# Altium integrated library AltiumLibraries.IntLib: 138 symbols (part 2 of 2)
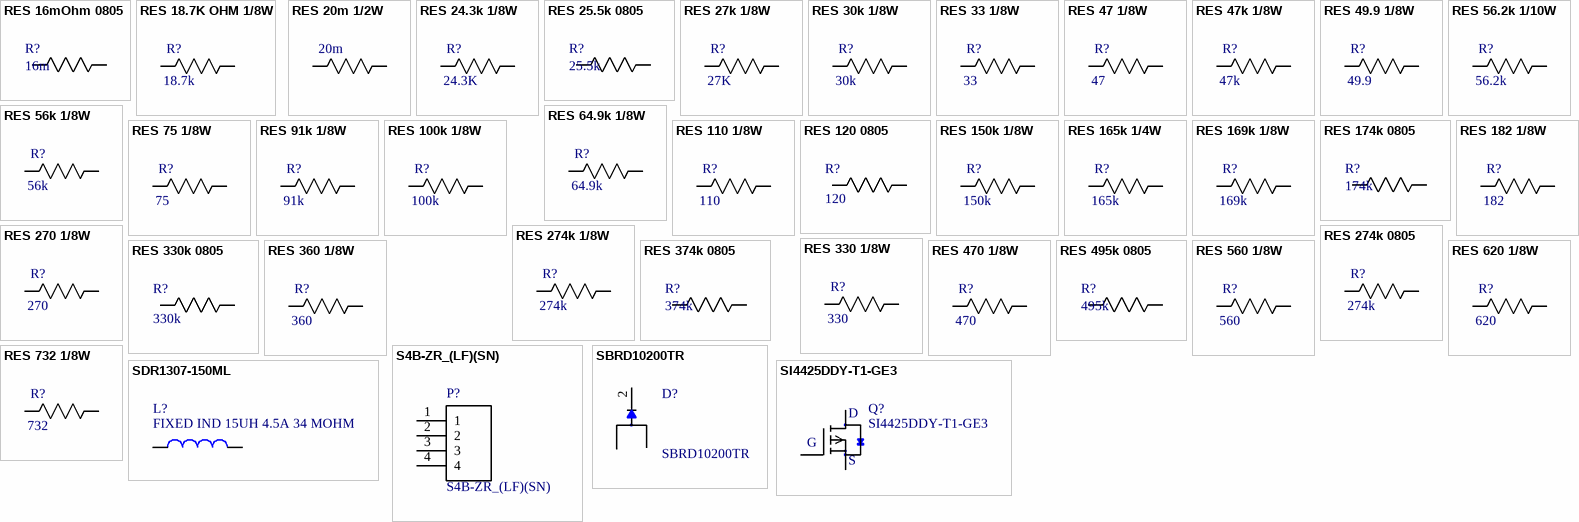
[diagram p4: symbols RES 16mOhm 0805 to SI4425DDY-T1-GE3]

## RES 56k 1/8W
designator R?, comment 56k
RES SMD 56K OHM 5% 1/8W 0805; Power (Watts): 0.125W; Package: 0805; Value: 56k; Tolerance: 5%
footprint 0805
pins: 1 R1, 2 R2

## RES 64.9k 1/8W
designator R?, comment 64.9k
RES SMD 64.9K OHM 1% 1/8W 0805; Power (Watts): 0.125W; Package: 0805; Value: 64.9k; Tolerance: 1%; ComponentLink1Description: digikey; ComponentLink1URL: https://www.digikey.ca/en/products/detail/yageo/RC0805FR-0764K9L/728090
footprint 0805
pins: 1 R1, 2 R2

## RES 75 1/8W
designator R?, comment 75
RES SMD 75 OHM 1% 1/8W 0805; Power (Watts): 0.125W; Package: 0805; Value: 75; Tolerance: 1%
footprint 0805
pins: 1 R1, 2 R2

## RES 91k 1/8W
designator R?, comment 91k
RES SMD 91K OHM 1% 1/8W 0805; Power (Watts): 0.125W; Package: 0805; Value: 91k; Tolerance: 1%
footprint 0805
pins: 1 R1, 2 R2

## RES 100k 1/8W
designator R?, comment 100k
RES SMD 100K OHM 1% 1/8W 0805; Power (Watts): 0.125W; Package: 0805; Value: 100k; Tolerance: 1%
footprint 0805
pins: 1 R1, 2 R2

## RES 110 1/8W
designator R?, comment 110
RES SMD 110 OHM 1% 1/8W 0805; Power (Watts): 0.125W; Package: 0805; Value: 110; Tolerance: 1%
footprint 0805
pins: 1 R1, 2 R2

## RES 120 0805
designator R?, comment 120
RES SMD 120 OHM 0805
footprint 0805
pins: 1 R1, 2 R2

## RES 150k 1/8W
designator R?, comment 150k
RES SMD 150K OHM 1% 1/8W 0805; Power (Watts): 0.125W; Package: 0805; Value: 150k; Tolerance: 1%
footprint 0805
pins: 1 R1, 2 R2

## RES 165k 1/4W
designator R?, comment 165k
RES SMD 165K OHM 1% 1/4W 0805; Power (Watts): 0.25W; Package: 0805; Value: 165k; Tolerance: 1%
footprint 0805
pins: 1 R1, 2 R2

## RES 169k 1/8W
designator R?, comment 169k
RES SMD 169K OHM 1% 1/8W 0805; Power (Watts): 0.125W; Package: 0805; Value: 169k; Tolerance: 1%; ComponentLink1Description: digikey; ComponentLink1URL: https://www.digikey.ca/en/products/detail/yageo/RC0805FR-07169KL/727634
footprint 0805
pins: 1 R1, 2 R2

## RES 174k 0805
designator R?, comment 174k
RES SMD 174K OHM 1% 1/8W 0805; Manufacturer: Yageo; Manufacturer Part Number: RC0805FR-07174KL; Max Power Dissipation: 125mW; Resistance: 174kR; Temperature Coefficient: 100ppm/°C; Voltage Rating: 150V; Supplier 1: Digi-Key; RoHS: Yes; Category: Chip SMD Resistors; Stock 1: 27863; Pricing 1: 1=0.10000, 10=0.04000, 100=0.01630, 1000=0.00731, 2500=0.00635 (USD); Case/Package: 0805; Case Code (Metric): 2012; Case Code (Imperial): 0805; Contact Plating: Tin,Matte; Min Operating Temperature: -55°C; Max Operating Temperature: 155°C; Package Quantity: 1; Power Rating: 125mW; Tolerance: 1%; Packaging: Tape and Reel; Features: Moisture Resistant; Composition: Thick Film; Number of Terminations: 2; Termination: SMD/SMT; Military Standard: Not; Voltage Rating (DC): 150V; Length: 2mm; Height: 0.024inch; Width: 0.049inch; Depth: 1.25mm; Radiation Hardening: No; Lead Free: Lead Free; ComponentLink1URL: https://datasheet.ciiva.com/2509/pyu-r-int-thick-7-2509472.pdf?src-supplier=Digi-Key; ComponentLink1Description: https://datasheet.ciiva.com/2509/pyu-r-int-thick-7-2509472.pdf?src-supplier=Digi-Key; ComponentLink2URL: https://datasheet.ciiva.com/2509/pyu-r-int-thick-7-2509471.pdf?src-supplier=Digi-Key; ComponentLink2Description: https://datasheet.ciiva.com/2509/pyu-r-int-thick-7-2509471.pdf?src-supplier=Digi-Key; ComponentLink3URL: https://datasheet.ciiva.com/2509/pyu-r-int-thick-7-2509473.pdf?src-supplier=Digi-Key; ComponentLink3Description: https://datasheet.ciiva.com/2509/pyu-r-int-thick-7-2509473.pdf?src-supplier=Digi-Key; Supplier Part Number 1: 311-174KCRCT-ND
footprint 0805
pins: 1 R1, 2 R2

## RES 182 1/8W
designator R?, comment 182
RES SMD 182 OHM 1% 1/8W 0805; Power (Watts): 0.125W; Package: 0805; Value: 182; Tolerance: 1%
footprint 0805
pins: 1 R1, 2 R2

## RES 270 1/8W
designator R?, comment 270
RES SMD 270 OHM 5% 1/8W 0805; Power (Watts): 0.125W; Package: 0805; Value: 270; Tolerance: 5%
footprint 0805
pins: 1 R1, 2 R2

## RES 274k 1/8W
designator R?, comment 274k
RES SMD 274K OHM 1% 1/8W 0805; Power (Watts): 0.125W; Package: 0805; Value: 274k; Tolerance: 1%
footprint 0805
pins: 1 R1, 2 R2

## RES 274k 0805
designator R?, comment 274k
RES SMD 274K OHM 1% 1/8W 0805; MP: RC0805FR-07274KL; MF: Yageo; Rating: 0.125W; Digikey: 311-274KCRCT-ND; Price: 0.061 CAD; Package: 0805; Value: 274k; Digikey Link: https://www.digikey.ca/products/en?keywords=311-274KCRCT-ND; Tolerance: 1%
footprint 0805
pins: 1 R1, 2 R2

## RES 330 1/8W
designator R?, comment 330
RES SMD 330 OHM 1% 1/8W 0805; Rating: 0.125W; Package: 0805; Value: 330; Tolerance: 1%
footprint 0805
pins: 1 R1, 2 R2

## RES 330k 0805
designator R?, comment 330k
RES SMD 274K OHM 1% 1/8W 0805
footprint 0805
pins: 1 R1, 2 R2

## RES 360 1/8W
designator R?, comment 360
RES SMD 360 OHM 1% 1/8W 0805; Power (Watts): 0.125W; Package: 0805; Value: 360; Tolerance: 1%
footprint 0805
pins: 1 R1, 2 R2

## RES 374k 0805
designator R?, comment 374k
0805 Resistor, 6A, 0.125W, 25ppm, 0.1%, 374K; Manufacturer: Panasonic; Manufacturer Part Number: ERA-6AEB3743V; Resistance: 374kR; Temperature Coefficient: 25ppm/°C; Max Power Dissipation: 125mW; Voltage Rating: 100V; Supplier 1: Digi-Key; RoHS: Yes; Category: Chip SMD Resistors; Stock 1: 10062; Pricing 1: 1=0.34000, 10=0.28800, 100=0.11260, 1000=0.04712, 2500=0.04320 (USD); Mount: Surface Mount; Case/Package: 0805; Number of Pins: 2; Contact Plating: Tin; Case Code (Metric): 2012; Case Code (Imperial): 0805; Min Operating Temperature: -55°C; Max Operating Temperature: 155°C; Tolerance: 0.1%; Packaging: Tape and Reel; Package Quantity: 5000; Features: Automotive AEC-Q200; Number of Terminations: 2; Composition: Thin Film,Metal Film; Power Rating: 125mW; Termination: Solder; Voltage Rating (DC): 100V; Length: 2mm; Height: 0.5mm; Width: 1.25mm; Depth: 1.25mm; Radiation Hardening: No; Lead Free: Lead Free; ComponentLink1URL: https://datasheet.ciiva.com/11810/0900766b80eb1d8c-11810612.pdf?src-supplier=RSComponents; ComponentLink1Description: https://datasheet.ciiva.com/11810/0900766b80eb1d8c-11810612.pdf?src-supplier=RSComponents; ComponentLink2URL: https://datasheet.ciiva.com/41450/001181392-da-01-en-widerstand-era-0805-374k-0-1-5000st-41450550.pdf?src-supplier=Conrad; ComponentLink2Description: https://datasheet.ciiva.com/41450/001181392-da-01-en-widerstand-era-0805-374k-0-1-5000st-41450550.pdf?src-supplier=Conrad; ComponentLink3URL: https://datasheet.ciiva.com/17206/aoa0000ce26-17206008.pdf?src-supplier=Avnet+Europe; ComponentLink3Description: https://datasheet.ciiva.com/17206/aoa0000ce26-17206008.pdf?src-supplier=Avnet+Europe; ComponentLink4URL: https://datasheet.ciiva.com/6001/485442-6001717.pdf?src-supplier=Farnell; ComponentLink4Description: https://datasheet.ciiva.com/6001/485442-6001717.pdf?src-supplier=Farnell; ComponentLink5URL: https://datasheet.ciiva.com/9182/aoa0000ce26-9182549.pdf?src-supplier=Avnet; ComponentLink5Description: https://datasheet.ciiva.com/9182/aoa0000ce26-9182549.pdf?src-supplier=Avnet; ComponentLink6URL: https://datasheet.ciiva.com/6001/485442-6001718.pdf?src-supplier=Farnell; ComponentLink6Description: https://datasheet.ciiva.com/6001/485442-6001718.pdf?src-supplier=Farnell; ComponentLink7URL: https://datasheet.ciiva.com/7753/485442-7753884.pdf?src-supplier=Element14; ComponentLink7Description: https://datasheet.ciiva.com/7753/485442-7753884.pdf?src-supplier=Element14; ComponentLink8URL: https://datasheet.ciiva.com/7753/485442-7753885.pdf?src-supplier=Element14; ComponentLink8Description: https://datasheet.ciiva.com/7753/485442-7753885.pdf?src-supplier=Element14; Supplier Part Number 1: P374KDACT-ND
footprint 0805
pins: 1 R1, 2 R2

## RES 470 1/8W
designator R?, comment 470
RES SMD 470 OHM 1% 1/8W 0805; Power (Watts): 0.125W; Package: 0805; Value: 470; Tolerance: 1%
footprint 0805
pins: 1 R1, 2 R2

## RES 495k 0805
designator R?, comment 495k
RES SMD 499K OHM 1% 1/8W 0805; Manufacturer: Yageo; Manufacturer Part Number: RC0805FR-07499KL; Temperature Coefficient: 100ppm/°C; Voltage Rating (DC): 150V; Resistance: 499kR; Power Rating: 125mW; Supplier 1: Digi-Key; RoHS: Yes; Category: Chip SMD Resistors; Stock 1: 2275; Pricing 1: 1=0.10000, 10=0.04000, 100=0.01630, 1000=0.00731, 2500=0.00635 (USD); Case/Package: 0805; Case Code (Metric): 2012; Case Code (Imperial): 0805; Contact Plating: Tin,Lead,Matte; Min Operating Temperature: -55°C; Max Operating Temperature: 155°C; Termination: SMD/SMT; Composition: Thick Film; Military Standard: Not; Tolerance: 1%; Voltage Rating: 150V; Packaging: Tape and Reel; Length: 2mm; Depth: 1.25mm; Radiation Hardening: No; Lead Free: Lead Free; ComponentLink1URL: https://datasheet.ciiva.com/15189/getdatasheetpartid-326570-15189975.pdf?src-supplier=Verical; ComponentLink1Description: https://datasheet.ciiva.com/15189/getdatasheetpartid-326570-15189975.pdf?src-supplier=Verical; Supplier Part Number 1: 311-499KCRCT-ND
footprint 0805
pins: 1 R1, 2 R2

## RES 560 1/8W
designator R?, comment 560
RES SMD 560 OHM 1% 1/8W 0805; Power (Watts): 0.125W; Package: 0805; Value: 560; Tolerance: 1%
footprint 0805
pins: 1 R1, 2 R2

## RES 620 1/8W
designator R?, comment 620
RES SMD 620 OHM 5% 1/8W 0805; Power (Watts): 0.125W; Package: 0805; Value: 620; Tolerance: 5%
footprint 0805
pins: 1 R1, 2 R2

## RES 732 1/8W
designator R?, comment 732
RES SMD 732 OHM 1% 1/8W 0805; Power (Watts): 0.125W; Package: 0805; Value: 732; Tolerance: 1%
footprint 0805
pins: 1 R1, 2 R2

## S4B-ZR_(LF)(SN)
designator P?
Conn Shrouded Header HDR 4 POS 1.5mm Solder RA Thru-Hole Box; MP: S4B-ZR _LF__SN_; MF: JST Sales; Package: None; Price: None; Digikey PN: 455-1671-ND
footprint *JST_S4B-ZR(LF)(SN)
pins: 1, 2, 3, 4

## SBRD10200TR
designator D?
Diode Schottky 200V 10A Surface Mount DPAK; MF: SMC Diode; MP: SBRD10200TR; SnapEDA_Link: https://www.snapeda.com/parts/SBRD10200TR/SMC%20Diode%20Solutions/view-part/702246/?ref=snap; Package: TO-252-3 SMC; ComponentLink1Description: digikey; ComponentLink1URL: https://www.digikey.ca/product-detail/en/smc-diode-solutions/SBRD10200TR/1655-1939-1-ND/8625508; Digikey: 1655-1939-1-ND; Digikey Link: https://www.digikey.ca/product-detail/en/smc-diode-solutions/SBRD10200TR/1655-1939-1-ND/8625508
footprint DPAK
pins: 1, 2, 3

## SDR1307-150ML
designator L?, comment FIXED IND 15UH 4.5A 34 MOHM
15µH Unshielded Wirewound Inductor 4.5A 34mOhm Max Nonstandard; MP: SDR1307-150ML; MF: Bourns Inc.; Inductance: 15.0uH; Current - Saturation: 7.5A; Height - Seated (Max): 0.287"" (7.30mm); ComponentLink1Description: digikey; ComponentLink1URL: https://www.digikey.ca/en/products/detail/bourns-inc/SRU1048-8R2Y/2352912; Digikey: SDR1307-150MLCT-ND; Digikey Link: https://www.digikey.ca/en/products/detail/bourns-inc/SDR1307-150ML/2561929; DC Resistance (DCR): 34mOhm; Operating Temperature: -40°C ~ 125°C; Size / Dimension: 0.512"" L x 0.512"" W (13.00mm x 13.00mm)
pins: 1, 2

## SI4425DDY-T1-GE3
designator Q?
P-Channel 30V 19.7A (Tc) 2.5W (Ta), 5.7W (Tc) Surface Mount 8-SO; MF: ON Semiconductor; Package: 8-SOIC; MP: SI4425DDY-T1-GE3; ComponentLink1Description: digikey; ComponentLink1URL: https://www.digikey.ca/en/products/detail/vishay-siliconix/SI4425DDY-T1-GE3/2622187; Digikey: SI4425DDY-T1-GE3CT-ND; Digikey Link: https://www.digikey.ca/product-detail/en/vishay-siliconix/SI4425DDY-T1-GE3/SI4425DDY-T1-GE3CT-ND/3305378
footprint 8-SOIC MOSFET
pins: D, G, S

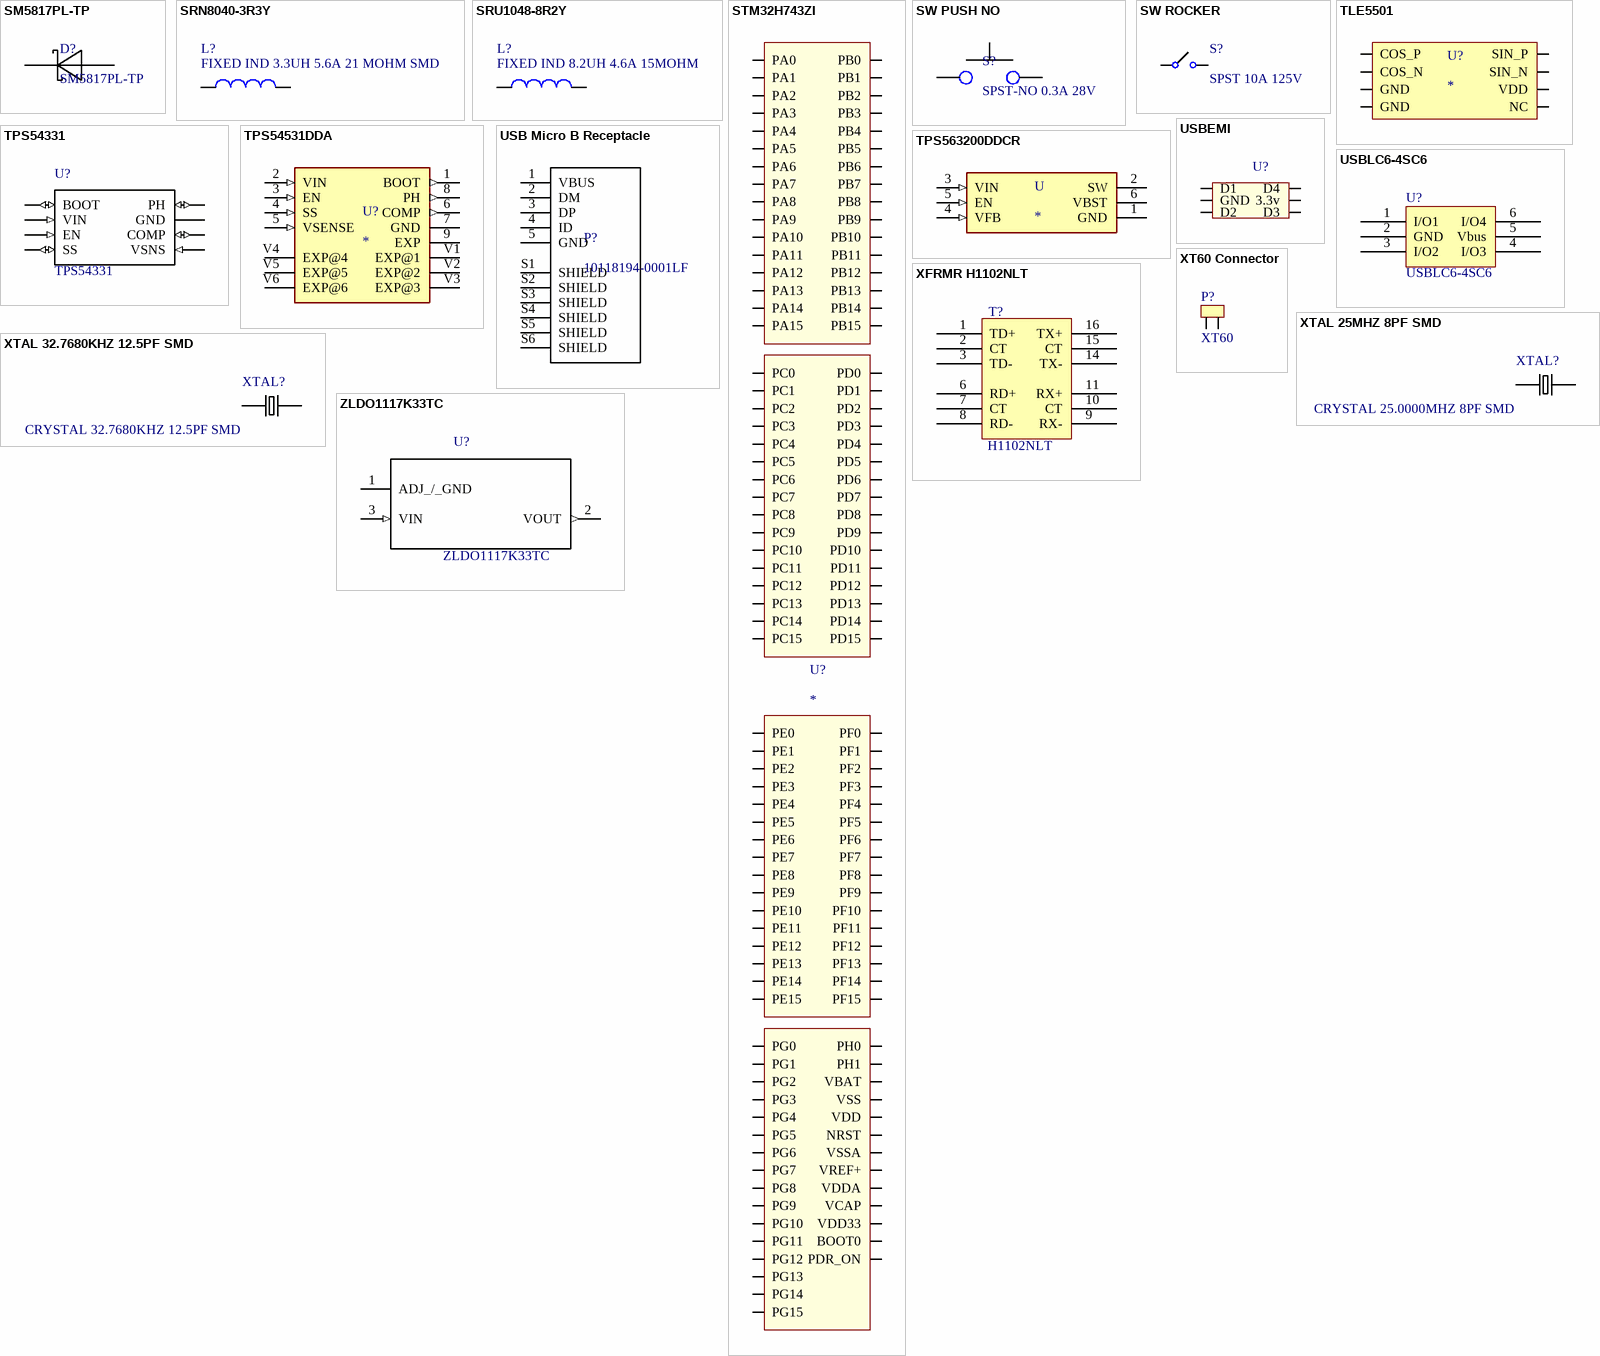
[diagram p3: symbols SM5817PL-TP to ZLDO1117K33TC]

## SM5817PL-TP
designator D?
Diode Schottky 20V 1A Surface Mount SOD-123FL; MF: Micro Commercial Co; ComponentLink1Description: digikey; ComponentLink1URL: https://www.digikey.ca/product-detail/en/on-semiconductor/MBR0540T1G/MBR0540T1GOSCT-ND/917967; Digikey: SM5817PL-TPMSCT-ND; Digikey Link: https://www.digikey.ca/product-detail/en/micro-commercial-co/SM5817PL-TP/SM5817PL-TPMSCT-ND/1793410; MP: SM5817PL-TP; Voltage Rating: 20V; Package: SOD-123; Current Rating: 1A
footprint SOD-123
pins: A, C K

## SRN8040-3R3Y
designator L?, comment FIXED IND 3.3UH 5.6A 21 MOHM SMD
3.3µH Semi-Shielded Wirewound Inductor 5.6A 21mOhm Max Nonstandard; MP: SRN8040-3R3Y; MF: Bourns Inc.; Price: None; Package: Nonstandard; Inductance: 3.3uH; ComponentLink1Description: digikey; ComponentLink1URL: https://www.digikey.ca/en/products/detail/bourns-inc/SRU1048-8R2Y/2352912; Digikey: SRN8040-3R3YCT-ND; Digikey Link: https://www.digikey.ca/en/products/detail/bourns-inc/SRN8040-3R3Y/2756131
pins: 1, 2

## SRU1048-8R2Y
designator L?, comment FIXED IND 8.2UH 4.6A 15MOHM
8.2µH Shielded Wirewound Inductor 4.6A 15mOhm Nonstandard; MP: SRU1048-8R2Y; MF: Bourns Inc.; Price: None; Package: Nonstandard; Value: 8.2uH; ComponentLink1Description: digikey; ComponentLink1URL: https://www.digikey.ca/en/products/detail/bourns-inc/SRU1048-8R2Y/2352912; Digikey: SRU1048-8R2YCT-ND; Digikey Link: https://www.digikey.ca/en/products/detail/bourns-inc/SRU1048-8R2Y/2352912
footprint SRU1048-8R2Y
pins: 1, 2

## STM32H743ZI
designator U?
MF: STMicroelectronics; MP: STM32H743ZIT6; Digikey: 497-17721-ND; Digikey Link: https://www.digikey.ca/product-detail/en/stmicroelectronics/STM32H743ZIT6/497-17721-ND/7809238; Package: 144-LQFP (20x20)
footprint STM32H7 (STM32H743ZI 144 pin)
pins: BOOT0, NRST, PA0, PA1, PA2, PA3, PA4, PA5, PA6, PA7, PA8, PA9, PA10, PA11, PA12, PA13, PA14, PA15, PB0, PB1, PB2, PB3, PB4, PB5, PB6, PB7, PB8, PB9, PB10, PB11, PB12, PB13, PB14, PB15, PC0, PC1, PC2, PC3, PC4, PC5, PC6, PC7, PC8, PC9, PC10, PC11, PC12, PC13, PC14, PC15, PD0, PD1, PD2, PD3, PD4, PD5, PD6, PD7, PD8, PD9, PD10, PD11, PD12, PD13, PD14, PD15, PDR_ON, PE0, PE1, PE2, PE3, PE4, PE5, PE6, PE7, PE8, PE9, PE10, PE11, PE12, PE13, PE14, PE15, PF0, PF1, PF2, PF3, PF4, PF5, PF6, PF7, PF8, PF9, PF10, PF11, PF12, PF13, PF14, PF15, PG0, PG1, PG2, PG3, PG4, PG5, PG6, PG7, PG8, PG9, PG10, PG11, PG12, PG13, PG14, PG15, PH0, PH1, VBAT, VCAP, VDD, VDD33USB VDD33, VDDA, VREF+, VSS, VSSA

## SW PUSH NO
designator S?, comment SPST-NO 0.3A 28V
Pushbutton Switch SPST-NO Standard Through Hole; MF: E-Switch; MP: PB300STQ; Rating: 28V 0.3A; ComponentLink1Description: Digikey; ComponentLink1URL: https://www.digikey.ca/product-detail/en/e-switch/PB300STQ/EG5398-ND/6126493; ComponentLink2Description: Datasheet; ComponentLink2URL: https://sten-eswitch-13110800-production.s3.amazonaws.com/system/asset/product_line/data_sheet/222/PB300.pdf; Digikey: EG5398-ND; Digikey Link: https://www.digikey.ca/product-detail/en/e-switch/PB300STQ/EG5398-ND/6126493; Price: 3.40000 CAD
footprint PB300STQ (SWITCH PUSH SPST-NO 0.3A 28V)
pins: 1, 2

## SW ROCKER
designator S?, comment SPST 10A 125V
Rocker Switch SPST 10A (AC) 125V Panel Mount, Snap-In; MP: SRB22A2FBBNN; MF: ZF Electronics; Digikey: CH755-ND; Digikey Link: https://www.digikey.ca/product-detail/en/zf-electronics/SRB22A2FBBNN/CH755-ND/446021; Price: 1.276 CAD; Rating: 10A 125V; ComponentLink1Description: Digikey; ComponentLink1URL: https://www.digikey.ca/product-detail/en/zf-electronics/SRB22A2FBBNN/CH755-ND/446021; ComponentLink2Description: Datasheet; ComponentLink2URL: http://switches-sensors.zf.com/us/wp-content/uploads/sites/7/2012/10/Rocker_SRB_Datasheet1.pdf
footprint SWITCH ROCKER SPST 10A 125V
pins: 0, 1

## TLE5501
designator U?
TMR 360deg Magnetic Encoder; Manufacturer: Infineon Technologies; Manufacturer Part Number: TLE5501E0001XUMA1; Digi-Key Part Number: TLE5501E0001XUMA1DKR-ND; Footprint: 8-SOIC; Package: PG-DSO-8-16
footprint 8-SOIC TLE5XXX ENC
pins: 1 COS_P, 2 COS_N, 3 GND, 4 GND, 5 NC, 6 VDD, 7 SIN_N, 8 SIN_P

## TPS54331
designator U?
Buck Switching Regulator IC Positive Adjustable 0.8V 1 Output 3A 8-SOIC _0.154, 3.90mm Width_; MP: TPS54331DDAR; MF: Texas Instruments; SnapEDA_Link: https://www.snapeda.com/parts/TPS54331/Texas%20Instruments/view-part/568919/?ref=snap; Package: 8-PowerSOIC; Digikey: 296-39419-1-ND; Digikey Link: https://www.digikey.ca/product-detail/en/texas-instruments/TPS54331DDAR/296-39419-1-ND/5143369
footprint 8-PowerSOIC
pins: 1 BOOT (io), 2 VIN (in), 3 EN (in), 4 SS (io), 5 VSNS (in), 6 COMP (io), 7 GND (power), 8 PH (io), 9 PowerPAD (power) hidden

## TPS54531DDA
designator U?
Buck Switching Regulator IC Positive Adjustable 0.8V 1 Output 5A 8-PowerSOIC _0.154, 3.90mm Width_; MF: Texas Instruments; MP: TPS54531DDA; Value: *; Price: None; Package: SO-8 Texas Instruments; SnapEDA_Link: https://www.snapeda.com/parts/TPS54531DDA/Texas%20Instruments/view-part/289535/?ref=snap; Availability: Unavailable
footprint 8-PowerSOIC
pins: 1 BOOT (out), 2 VIN (in), 3 EN (in), 4 SS (in), 5 VSENSE (in), 6 COMP (out), 7 GND (power), 8 PH (out), 9 EXP (power), V1 EXP@1 (power), V2 EXP@2 (power), V3 EXP@3 (power), V4 EXP@4 (power), V5 EXP@5 (power), V6 EXP@6 (power)

## TPS563200DDCR
designator U
Buck Switching Regulator IC Positive Adjustable 0.76V 1 Output 3A SOT-23-6 Thin, TSOT-23-6; MF: Texas Instruments; MP: TPS563200DDCR; Package: TSOT-23 Texas Instruments; Value: *; Price: None; SnapEDA_Link: https://www.snapeda.com/parts/TPS563200DDCR/Texas%20Instruments/view-part/71685/?ref=snap; Availability: Unavailable
footprint TSOT-23-6 (SOT-23-6 Thin)
pins: 1 GND (power), 2 SW, 3 VIN (in), 4 VFB (in), 5 EN (in), 6 VBST

## USB Micro B Receptacle
designator P?, comment 10118194-0001LF
USB - micro B USB 2.0 Receptacle Connector 5 Position Surface Mount, Right Angle; Through Hole; MF: Amphenol ICC (FCI); Rating: 100VAC 1.8A; Digikey: 609-4618-1-ND; Digikey Link: https://www.digikey.ca/product-detail/en/amphenol-icc-fci/10118194-0001LF/609-4618-1-ND/2785382; MP: 10118194-0001LF; Price: 0.62000 CAD; ComponentLink1Description: Digikey; ComponentLink1URL: https://www.digikey.ca/product-detail/en/amphenol-icc-fci/10118194-0001LF/609-4618-1-ND/2785382; ComponentLink2Description: Datasheet; ComponentLink2URL: https://www.digikey.ca/en/datasheets/amphenol-fci/amphenol-fci-io-usb-micro
footprint USB Micro B Receptacle (CONN RCPT USB2.0 MICRO B SMD R/A)
pins: 1 VBUS, 2 DM, 3 DP, 4 ID, 5 GND, S1 SHIELD, S2 SHIELD, S3 SHIELD, S4 SHIELD, S5 SHIELD, S6 SHIELD

## USBEMI
designator U?, comment FILTER RC(PI) 33 OHM/47PF SMD  (value not drawn)
RC (Pi) EMI Filter 2nd Order Low Pass 2 Channel R = 33Ohms, C = 47pF  6-TSSOP, SC-88, SOT-363; MF: STMicroelectronics; MP: USBUF01W6; Digikey: 497-3087-1-ND; Digikey Link: https://www.digikey.ca/product-detail/en/stmicroelectronics/USBUF01W6/497-3087-1-ND/634851; Price: 0.776 CAD; Package: 6-TSSOP
footprint USBEMITSSOP (RC (Pi) EMI Filter 2nd Order Low Pass 2 Channel R = 33Ohms, C = 47pF  6-TSSOP, SC-88, SOT-363)
pins: 3.3v, D1, D2, D3, D4, GND

## USBLC6-4SC6
designator U?
footprint SOT23-6L (Footprint not found)
pins: 1 I/O1, 2 GND, 3 I/O2, 4 I/O3, 5 Vbus, 6 I/O4

## XFRMR H1102NLT
designator T?, comment H1102NLT
Isolation and Data Interface (Encapsulated) Pulse Transformer 1:1 Transmitter, 1:1 Receiver Surface Mount; MF: Pulse Electronics; Package: SOIC-16; Price: 7.99 CAD; MP: H1102NL; Digikey: 553-1323-5-ND; Digikey Link: https://www.digikey.ca/en/products/detail/pulse-electronics-network/H1102NL/1036940?s=N4IgTCBcDaIBIEYEAYwDkAyIC6BfIA
footprint TRANSFORMER
pins: 1 TD+, 2 CT, 3 TD-, 6 RD+, 7 CT, 8 RD-, 9 RX-, 10 CT, 11 RX+, 14 TX-, 15 CT, 16 TX+

## XT60 Connector
designator P?, comment XT60
XT60 CONNECTORS FEMALE PAIR; MF: SparkFun Electronics; MP: PRT-10474; Digikey: 1568-1816-ND; Digikey Link: https://www.digikey.ca/product-detail/en/sparkfun-electronics/PRT-10474/1568-1816-ND/8258064; Package: XT60; Price: 2.13000 CAD; Value: N/A
footprint XT60Connector
pins: 1, 2

## XTAL 25MHZ 8PF SMD
designator XTAL?, comment CRYSTAL 25.0000MHZ 8PF SMD
25MHz ±50ppm Crystal 8pF 70 Ohms 2-SMD, No Lead; MP: NX5032GA-25.000000MHZ-LN-CD-1; MF: NDK America, Inc.; ESR: 70 Ohms; Package: 2-SMD, No Lead; Price: 0.95 CAD; Frequency: 25MHz; Digikey: 644-1041-1-ND; Digikey Link: https://www.digikey.ca/product-detail/en/ndk-america-inc/NX5032GA-25.000000MHZ-LN-CD-1/644-1041-1-ND/1128913; Load Capacitance: 8pF
footprint SMD-2
pins: 1, 2

## XTAL 32.7680KHZ 12.5PF SMD
designator XTAL?, comment CRYSTAL 32.7680KHZ 12.5PF SMD
32.768kHz ±20ppm Crystal 12.5pF 70 kOhms 2-SMD, No Lead; MP: NX3215SA-32.768K-STD-MUA-8; MF: NDK America, Inc.; Package: 2-SMD, No Lead; Price: 1.04000 CAD; Frequency: 32.768kHz; Digikey: 644-1156-1-ND; Digikey Link: https://www.digikey.ca/en/products/detail/ndk-america-inc/NX3215SA-32-768K-STD-MUA-8/2261469?s=N4IgTCBcDaIGwBYEFoCMqCsc3IHIBEQBdAXyA; Load Capacitance: 12.5pF; ESR: 70 kOhms; ComponentLink1Description: Digikey; ComponentLink1URL: https://www.digikey.ca/en/products/detail/ndk-america-inc/NX3215SA-32-768K-STD-MUA-8/2261469; ComponentLink2Description: Datasheet; ComponentLink2URL: https://media.digikey.com/datasheets/production/702868/1/NX3215SA-32-768K-STD-MUA-8.html
footprint SMD-2
pins: 1, 2

## ZLDO1117K33TC
designator U?
Linear Voltage Regulator IC Positive Fixed 1 Output  1A TO-252-3; MF: Diodes Incorporated; Package: TO-252-3; MP: ZLDO1117K33TC; Digikey: ZLDO1117K33DIDKR-ND; Digikey Link: https://www.digikey.ca/product-detail/en/diodes-incorporated/ZLDO1117K33TC/ZLDO1117K33DIDKR-ND/2095639
footprint TO-252-3
pins: 1 ADJ_/_GND (power), 2 VOUT (out), 3 VIN (in)